# Altium footprint library 2020-03-25_21-45-49.PcbLib: 3 footprints
Each footprint in its own frame and in the unit in brackets; x right, y up, seen from the top. Pads: shape width x height; smd on the part's side, far side on the other; paste and mask are expansions set on the pad; w line width, h text height; cw(c..) or ccw(c..) is an arc to the next point about the centre after c.
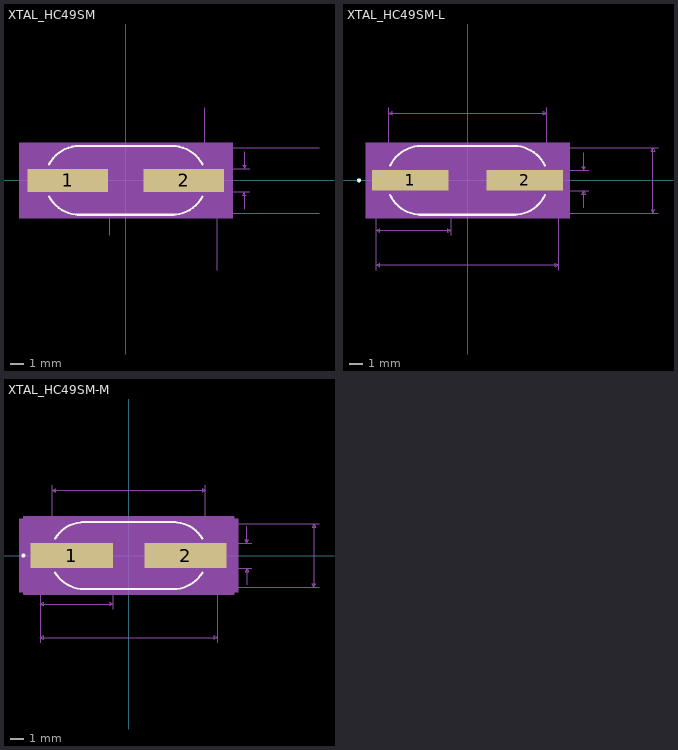
[diagram p0: the footprints below, top view; thin cyan lines are the x and y axes]

## XTAL_HC49SM [mil]
pads (2):
  rect 233x67 smd paste+0 mask+0: 1(-167.5,0) 2(167.5,0)
Top Overlay:
  lines w6: -221.91,-46.6 ccw(c-134,0) -134,-99.5 ; -221.91,46.6 cw(c-134,0) -134,99.5 ; -139,-99.5 139,-99.5 ; -139,99.5 139,99.5 ; 134,-99.5 ccw(c134,0) 221.91,-46.6 ; 134,99.5 cw(c134,0) 221.91,46.6
Mechanical 5:
  region: 309,-109.5 -309,-109.5 -309,109.5 309,109.5
Mechanical 7:
  lines w1: -47,-159.5 -47,0 ; 228.5,0 228.5,209.5 ; 264,-259.5 264,0 ; 294,-94.5 559,-94.5 ; 294,-33.5 359,-33.5 ; 294,33.5 359,33.5 ; 294,94.5 559,94.5 ; 344,-83.5 344,-33.5 339,-43.5 349,-43.5 ; 344,83.5 344,33.5 ; 344,33.5 339,43.5 349,43.5 344,33.5
  text "0.035in/0.889mm" at 364,-12.5 h25
Mechanical 13:
  lines w0: -134,-94.5 cw(c-134,0) -134,94.5 ; -134,-74.5 cw(c-134,0) -134,74.5 ; 134,-94.5 ccw(c134,0) 134,94.5 ; 134,-74.5 ccw(c134,0) 134,74.5
  lines w1: -134,-94.5 134,-94.5 ; -134,-74.5 134,-74.5 ; -134,74.5 134,74.5 ; -134,94.5 134,94.5
Mechanical 15:
  region: 294,-104.5 -294,-104.5 -294,104.5 294,104.5
  lines w6: -294,-104.5 -294,104.5 294,104.5 294,-104.5 -294,-104.5
3D body: height 10, standoff 0, extent 0,0 10,10
3D body "User Library-HC-49SM-1.sldprt": height 149.61, standoff 0, extent -241.1,-91.04 247.09,94

## XTAL_HC49SM-L [mil]
pads (2):
  rect 221x59 smd paste+0 mask+0: 1(-165.5,0) 2(165.5,0)
Top Overlay:
  circle w6: c-314,0 r3
  lines w6: -223.92,-42.6 ccw(c-134,0) -134,-99.5 ; -223.92,42.6 cw(c-134,0) -134,99.5 ; -139,-99.5 139,-99.5 ; -139,99.5 139,99.5 ; 134,-99.5 ccw(c134,0) 223.92,-42.6 ; 134,99.5 cw(c134,0) 223.92,42.6
Mechanical 5:
  region: 295,-109.5 -295,-109.5 -295,109.5 295,109.5
Mechanical 7:
  lines w1: -264,-259.5 -264,0 -264,-159.5 ; -228.5,0 -228.5,209.5 ; -47,-159.5 -47,0 ; 228.5,0 228.5,209.5 ; 264,-259.5 264,0 ; 286,-94.5 551,-94.5 ; 286,-29.5 351,-29.5 ; 286,29.5 351,29.5 ; 286,94.5 551,94.5 ; 336,-79.5 336,-29.5 ; 336,79.5 336,29.5 ; -264,-244.5 -254,-249.5 -254,-239.5 -264,-244.5 ; -264,-244.5 264,-244.5 ; -264,-144.5 -254,-149.5 -254,-139.5 -264,-144.5 ; -264,-144.5 -47,-144.5 ; -228.5,194.5 -218.5,189.5 -218.5,199.5 -228.5,194.5 ; -228.5,194.5 228.5,194.5 ; -47,-144.5 -57,-149.5 -57,-139.5 -47,-144.5 ; 228.5,194.5 218.5,189.5 218.5,199.5 228.5,194.5 ; 264,-244.5 254,-249.5 254,-239.5 264,-244.5 ; 336,-29.5 341,-39.5 331,-39.5 336,-29.5 ; 336,29.5 341,39.5 331,39.5 336,29.5 ; 536,-94.5 541,-84.5 531,-84.5 536,-94.5 ; 536,-94.5 536,94.5 ; 536,94.5 541,84.5 531,84.5 536,94.5
  text "0.217in/5.512mm" at -249.25,-189.5 h25
  text "0.528in/13.411mm" at -100,-289.5 h25
  text "0.457in/11.608mm" at -100,214.5 h25
  text "0.189in/4.801mm" at 556,-12.5 h25
  text "0.035in/0.889mm" at 356,-12.5 h25
  text "Alt 2 Padstyle: OX90Y60D30P" at -337.5,-464.5 h50
  text "Alt 1 Padstyle: OX60Y90D30P" at -337.5,-414.5 h50
  text "Default Padstyle: RX221Y59D0T" at -362.5,-364.5 h50
Mechanical 13:
  circle w0: c-259,0 r3
  lines w0: -134,-94.5 cw(c-134,0) -134,94.5 ; -134,-74.5 cw(c-134,0) -134,74.5 ; 134,-94.5 ccw(c134,0) 134,94.5 ; 134,-74.5 ccw(c134,0) 134,74.5
  lines w1: -134,-94.5 134,-94.5 ; -134,-74.5 134,-74.5 ; -134,74.5 134,74.5 ; -134,94.5 134,94.5
Mechanical 15:
  region: 280,-98.5 -280,-98.5 -280,98.5 280,98.5
  lines w6: -280,-98.5 280,-98.5 280,98.5 -280,98.5 -280,-98.5
3D body: height 10, standoff 0, extent 0,0 10,10

## XTAL_HC49SM-M [mil]
pads (2):
  rect 245x75 smd paste+0 mask+0: 1(-169.5,0) 2(169.5,0)
Top Overlay:
  circle w6: c-314,0 r3
  lines w6: -219.67,-50.6 ccw(c-134,0) -134,-99.5 ; -219.67,50.6 cw(c-134,0) -134,99.5 ; -139,-99.5 139,-99.5 ; -139,99.5 139,99.5 ; 134,-99.5 ccw(c134,0) 219.67,-50.6 ; 134,99.5 cw(c134,0) 219.67,50.6
Mechanical 5:
  region: 327,-109.5 -327,-109.5 -327,109.5 327,109.5
Mechanical 7:
  lines w1: -264,-259.5 -264,0 -264,-159.5 ; -228.5,0 -228.5,209.5 ; -47,-159.5 -47,0 ; 228.5,0 228.5,209.5 ; 264,-259.5 264,0 ; 302,-94.5 567,-94.5 ; 302,-37.5 367,-37.5 ; 302,37.5 367,37.5 ; 302,94.5 567,94.5 ; 352,-87.5 352,-37.5 ; 352,87.5 352,37.5 ; -264,-244.5 264,-244.5 ; -264,-244.5 -254,-239.5 -254,-249.5 -264,-244.5 ; -264,-144.5 -47,-144.5 ; -264,-144.5 -254,-139.5 -254,-149.5 -264,-144.5 ; -228.5,194.5 228.5,194.5 ; -228.5,194.5 -218.5,199.5 -218.5,189.5 -228.5,194.5 ; -47,-144.5 -57,-139.5 -57,-149.5 -47,-144.5 ; 228.5,194.5 218.5,199.5 218.5,189.5 228.5,194.5 ; 264,-244.5 254,-239.5 254,-249.5 264,-244.5 ; 352,-37.5 347,-47.5 357,-47.5 352,-37.5 ; 352,37.5 347,47.5 357,47.5 352,37.5 ; 552,-94.5 552,94.5 ; 552,-94.5 547,-84.5 557,-84.5 552,-94.5 ; 552,94.5 547,84.5 557,84.5 552,94.5
  text "Default Padstyle: RX245Y75D0T" at -362.5,-364.5 h50
  text "Alt 1 Padstyle: OX60Y90D30P" at -337.5,-414.5 h50
  text "Alt 2 Padstyle: OX90Y60D30P" at -337.5,-464.5 h50
  text "0.035in/0.889mm" at 372,-12.5 h25
  text "0.189in/4.801mm" at 572,-12.5 h25
  text "0.457in/11.608mm" at -100,214.5 h25
  text "0.528in/13.411mm" at -100,-289.5 h25
  text "0.217in/5.512mm" at -249.25,-189.5 h25
Mechanical 13:
  circle w0: c-259,0 r3
  lines w0: -134,-94.5 cw(c-134,0) -134,94.5 ; -134,-74.5 cw(c-134,0) -134,74.5 ; 134,-94.5 ccw(c134,0) 134,94.5 ; 134,-74.5 ccw(c134,0) 134,74.5
  lines w1: -134,-94.5 134,-94.5 ; -134,-74.5 134,-74.5 ; -134,74.5 134,74.5 ; -134,94.5 134,94.5
Mechanical 15:
  region: 312,-114.5 -312,-114.5 -312,114.5 312,114.5
  lines w6: -312,-114.5 -312,114.5 312,114.5 312,-114.5 -312,-114.5
3D body: height 10, standoff 0, extent 0,0 10,10